# Altium schematic symbol library LCD-27979.SchLib: 1 symbol
Pins are listed as number, name and electrical type; pins without a type are passive.

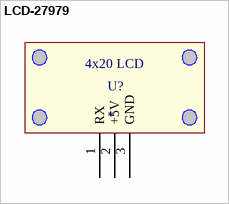
[diagram p0: symbol LCD-27979]

## LCD-27979
designator U?
pins: 1 RX, 2 +5V, 3 GND
text: 4x20 LCD